# Altium schematic symbol library SCH - Interface - EHT - 88E1512.SCHLIB: 1 symbol
Pins are listed as number, name and electrical type; pins without a type are passive.

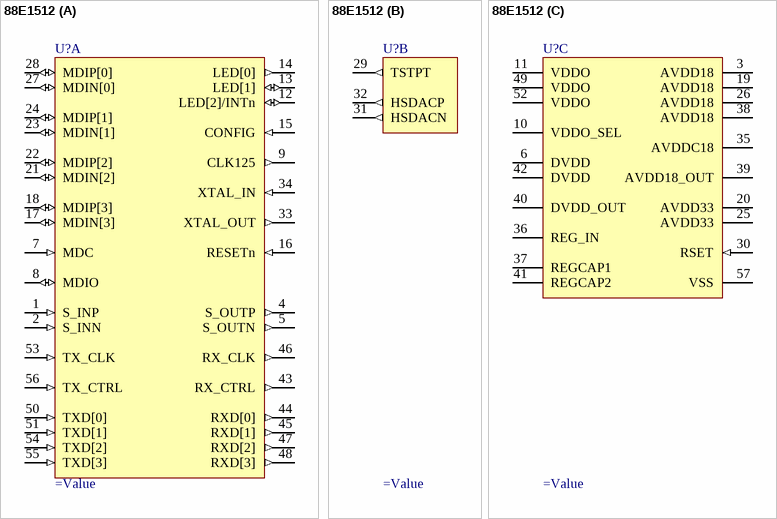
[diagram p0: symbol 88E1512]

## 88E1512
designator U?
Ethernet ICs Single-port EEE GE PHY w/SGMII in 56-pin QFN package Industrial Temp
part A pins: 1 S_INP (in), 2 S_INN (in), 4 S_OUTP (out), 5 S_OUTN (out), 7 MDC (in), 8 MDIO (io), 9 CLK125 (out), 12 LED[2]/INTn (io), 13 LED[1] (io), 14 LED[0] (out), 15 CONFIG (in), 16 RESETn (in), 17 MDIN[3] (io), 18 MDIP[3] (io), 21 MDIN[2] (io), 22 MDIP[2] (io), 23 MDIN[1] (io), 24 MDIP[1] (io), 27 MDIN[0] (io), 28 MDIP[0] (io), 33 XTAL_OUT (out), 34 XTAL_IN (in), 43 RX_CTRL (out), 44 RXD[0] (out), 45 RXD[1] (out), 46 RX_CLK (out), 47 RXD[2] (out), 48 RXD[3] (out), 50 TXD[0] (in), 51 TXD[1] (in), 53 TX_CLK (in), 54 TXD[2] (in), 55 TXD[3] (in), 56 TX_CTRL (in)
part B pins: 29 TSTPT (out), 31 HSDACN (out), 32 HSDACP (out)
part C pins: 3 AVDD18 (power), 6 DVDD (power), 10 VDDO_SEL (power), 11 VDDO (power), 19 AVDD18 (power), 20 AVDD33 (power), 25 AVDD33 (power), 26 AVDD18 (power), 30 RSET (in), 35 AVDDC18 (power), 36 REG_IN (power), 37 REGCAP1, 38 AVDD18 (power), 39 AVDD18_OUT (power), 40 DVDD_OUT (power), 41 REGCAP2, 42 DVDD (power), 49 VDDO (power), 52 VDDO (power), 57 VSS (power)